# Altium footprint library connector1.PcbLib: 7 footprints
Each footprint in its own frame and in the unit in brackets; x right, y up, seen from the top. Pads: shape width x height; smd on the part's side, far side on the other; paste and mask are expansions set on the pad; w line width, h text height; cw(c..) or ccw(c..) is an arc to the next point about the centre after c.
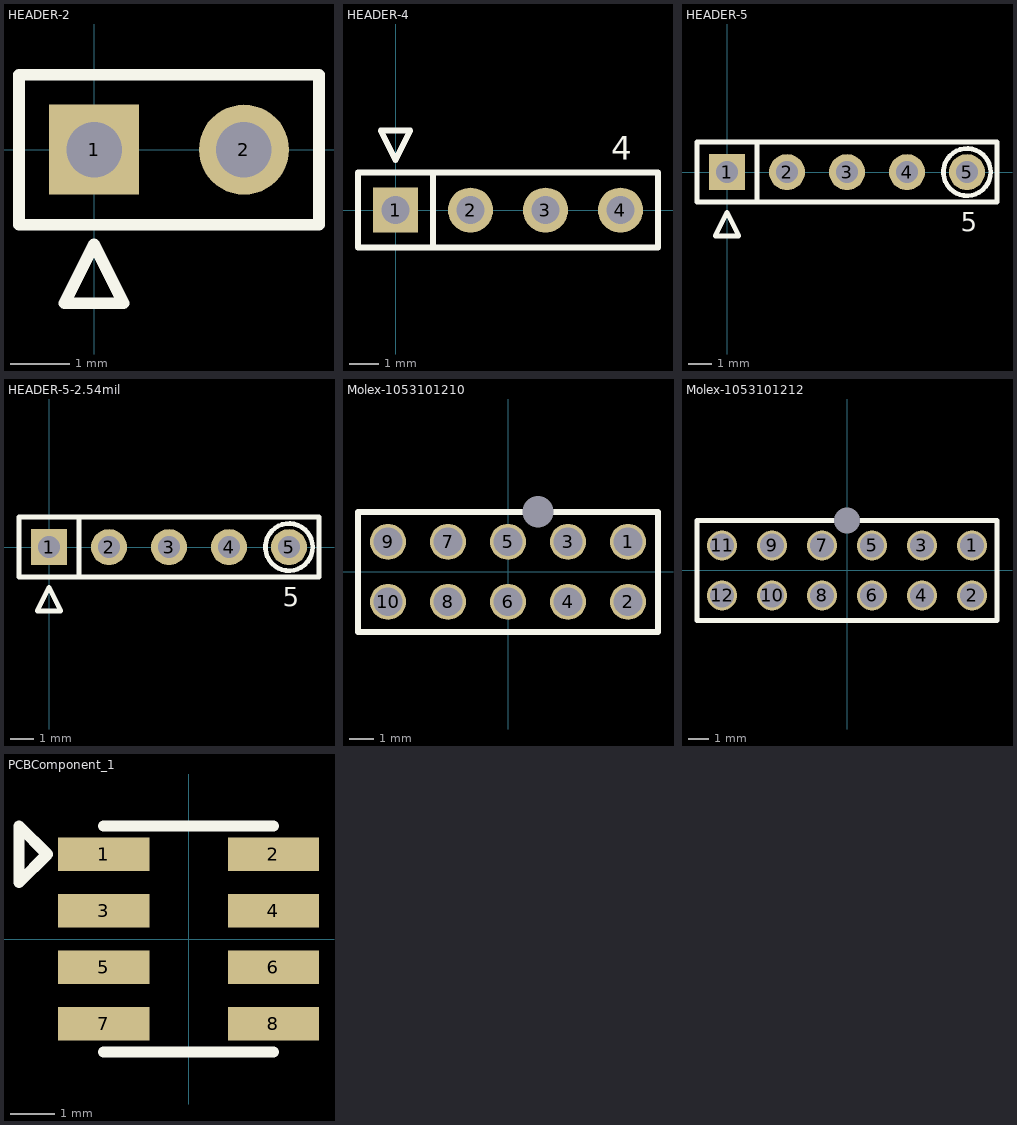
[diagram p0: the footprints below, top view; thin cyan lines are the x and y axes]

## HEADER-2 [mil]
pads (2):
  rect 60x60 hole 37: 1(0,0)
  round 60 hole 37: 2(100,0)
Top Overlay:
  lines w7.87: -50,-50 150,-50 150,50 -50,50 -50,-50 ; -19.69,-102.36 0,-62.99 19.68,-102.36 -19.69,-102.36
3D body "HDR1x2.STEP": height 330, standoff -150, extent -49.61,-51.18 150.39,48.82

## HEADER-4 [mil]
pads (4):
  rect 60x60 hole 37: 1(0,0)
  round 60 hole 37: 2(100,0) 3(200,0) 4(300,0)
Top Overlay:
  lines w7.87: 50,-50 50,50 ; -50,-50 350,-50 350,50 -50,50 -50,-50 ; -19.68,106.3 0,66.93 19.69,106.3 -19.68,106.3
  text "4" at 287.4,66.93 h31.5
3D body "HDR1x4.STEP": height 330, standoff -150, extent -50.46,-50.06 349.54,49.94

## HEADER-5 [mil]
pads (5):
  rect 60x60 hole 37: 1(0,0)
  round 60 hole 37: 2(100,0) 3(200,0) 4(300,0) 5(400,0)
Top Overlay:
  circle w7.87: c400,0 r39.37
  lines w7.87: 50,-50 50,50 ; -50,-50 450,-50 450,50 -50,50 -50,-50 ; -19.69,-106.3 19.68,-106.3 0,-66.93 -19.69,-106.3
  text "5" at 389.76,-98.43 h31.5
3D body "61300511121.stp": height 336.72, standoff -117.61, extent -49.99,-49.99 450.01,50.01

## HEADER-5-2.54mil [mil]
pads (5):
  rect 60x60 hole 37: 1(0,0)
  round 60 hole 37: 2(100,0) 3(200,0) 4(300,0) 5(400,0)
Top Overlay:
  circle w7.87: c400,0 r39.37
  lines w7.87: 50,-50 50,50 ; -50,-50 450,-50 450,50 -50,50 -50,-50 ; -19.69,-106.3 19.68,-106.3 0,-66.93 -19.69,-106.3
  text "5" at 389.76,-98.43 h31.5
3D body "2.54mm-5pin-male.stp": height 410, standoff -120, extent -50,-48 450,50

## Molex-1053101210 [mm]
pads (11):
  round 1.5 hole 1.2: 1(5,1.25) 2(5,-1.25) 3(2.5,1.25) 4(2.5,-1.25) 5(0,1.25) 6(0,-1.25) 7(-2.5,1.25) 8(-2.5,-1.25) 9(-5,1.25) 10(-5,-1.25)
  round 0 hole 1.3: a(1.25,2.5)
Top Overlay:
  lines w0.254: -5,2.5 6.25,2.5 6.25,-2.5 -6.25,-2.5 -6.25,2.5 -3.75,2.5
3D body "1053101210-10pin.stp": height 10.58, standoff -3.13, extent -6.72,-2.99 6.72,5.85

## Molex-1053101212 [mm]
pads (13):
  round 1.5 hole 1.2: 1(6.25,1.25) 2(6.25,-1.25) 3(3.75,1.25) 4(3.75,-1.25) 5(1.25,1.25) 6(1.25,-1.25) 7(-1.25,1.25) 8(-1.25,-1.25) 9(-3.75,1.25) 10(-3.75,-1.25) 11(-6.25,1.25) 12(-6.25,-1.25)
  round 0 hole 1.3: a(0,2.5)
Top Overlay:
  lines w0.254: -3.75,2.5 7.5,2.5 7.5,-2.5 -7.5,-2.5 -7.5,2.5 -2.5,2.5
3D body "1053101212.stp": height 10.58, standoff -3.13, extent -7.97,-2.99 7.97,5.85

## PCBComponent_1 [mm]
pads (8):
  rect 2.05x0.76 smd: 1(-1.905,1.905) 2(1.905,1.905) 3(-1.905,0.635) 4(1.905,0.635) 5(-1.905,-0.635) 6(1.905,-0.635) 7(-1.905,-1.905) 8(1.905,-1.905)
Top Overlay:
  lines w0.254: -1.905,-2.54 1.905,-2.54 ; -1.905,2.54 1.905,2.54 ; -3.81,1.27 -3.175,1.905 -3.81,2.54 -3.81,1.27